# Altium footprint library TLE75080ESDXUMA1.PcbLib: 3 footprints
Each footprint in its own frame and in the unit in brackets; x right, y up, seen from the top. Pads: shape width x height; smd on the part's side, far side on the other; paste and mask are expansions set on the pad; w line width, h text height; cw(c..) or ccw(c..) is an arc to the next point about the centre after c.
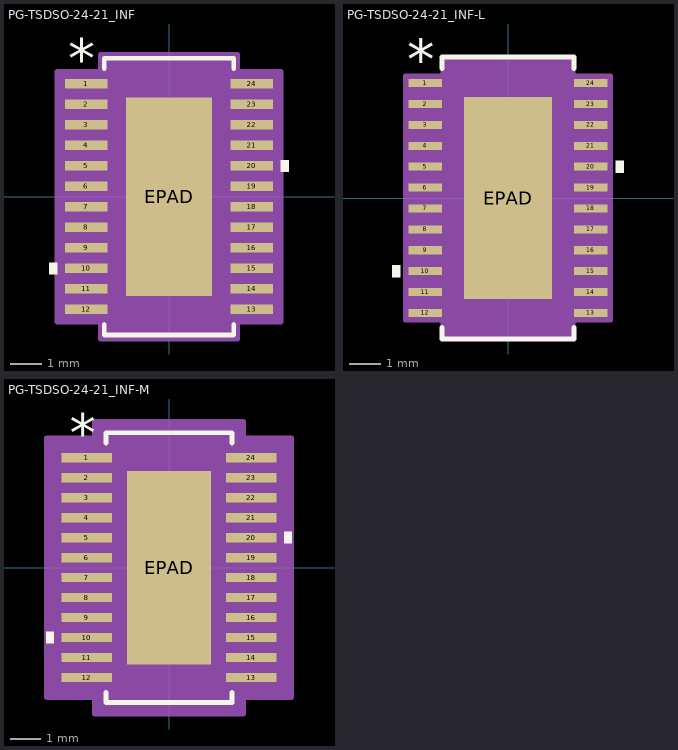
[diagram p0: the footprints below, top view; thin cyan lines are the x and y axes]

## PG-TSDSO-24-21_INF [mil]
pads (25):
  rect 54x12 smd paste+0 mask+0: 1(-105,143) 2(-105,117) 3(-105,91) 4(-105,65) 5(-105,39) 6(-105,13) 7(-105,-13) 8(-105,-39) 9(-105,-65) 10(-105,-91) 11(-105,-117) 12(-105,-143) 13(105,-143) 14(105,-117) 15(105,-91) 16(105,-65) 17(105,-39) 18(105,-13) 19(105,13) 20(105,39) 21(105,65) 22(105,91) 23(105,117) 24(105,143)
  rect 109x252 smd paste-125.5 mask+0: EPAD(0,0)
Top Overlay:
  region: -142,-83.5 -152,-83.5 -152,-98.5 -142,-98.5
  region: 142,46.5 152,46.5 152,31.5 142,31.5
  lines w6: -82,-162.1 -82,-175.5 82,-175.5 82,-162.1 ; -82,162.1 -82,175.5 82,175.5 82,162.1
  text "*" at -127.5,150 h50
Top Paste:
  region: -3.94,122.06 -50.56,122.06 -50.56,79.54 -3.94,79.54
  region: -3.94,71.66 -50.56,71.66 -50.56,29.14 -3.94,29.14
  region: -3.94,21.26 -50.56,21.26 -50.56,-21.26 -3.94,-21.26
  region: -3.94,-29.14 -50.56,-29.14 -50.56,-71.66 -3.94,-71.66
  region: -3.94,-79.54 -50.56,-79.54 -50.56,-122.06 -3.94,-122.06
  region: 50.56,122.06 3.94,122.06 3.94,79.54 50.56,79.54
  region: 50.56,71.66 3.94,71.66 3.94,29.14 50.56,29.14
  region: 50.56,21.26 3.94,21.26 3.94,-21.26 50.56,-21.26
  region: 50.56,-29.14 3.94,-29.14 3.94,-71.66 50.56,-71.66
  region: 50.56,-79.54 3.94,-79.54 3.94,-122.06 50.56,-122.06
Mechanical 13:
  lines w0: -12,170.5 ccw(c0,170.5) 12,170.5
  lines w1: -118,-148 -118,-138 -77,-138 -77,-148 -118,-148 ; -118,-122 -118,-112 -77,-112 -77,-122 -118,-122 ; -118,-96 -118,-86 -77,-86 -77,-96 -118,-96 ; -118,-70 -118,-60 -77,-60 -77,-70 -118,-70 ; -118,-44 -118,-34 -77,-34 -77,-44 -118,-44 ; -118,-18 -118,-8 -77,-8 -77,-18 -118,-18 ; -118,8 -118,18 -77,18 -77,8 -118,8 ; -118,34 -118,44 -77,44 -77,34 -118,34 ; -118,60 -118,70 -77,70 -77,60 -118,60 ; -118,86 -118,96 -77,96 -77,86 -118,86 ; -118,112 -118,122 -77,122 -77,112 -118,112 ; -118,138 -118,148 -77,148 -77,138 -118,138 ; -77,-170.5 77,-170.5 77,170.5 -77,170.5 -77,-170.5 ; 77,-148 77,-138 118,-138 118,-148 77,-148 ; 77,-122 77,-112 118,-112 118,-122 77,-122 ; 77,-96 77,-86 118,-86 118,-96 77,-96 ; 77,-70 77,-60 118,-60 118,-70 77,-70 ; 77,-44 77,-34 118,-34 118,-44 77,-44 ; 77,-18 77,-8 118,-8 118,-18 77,-18 ; 77,8 77,18 118,18 118,8 77,8 ; 77,34 77,44 118,44 118,34 77,34 ; 77,60 77,70 118,70 118,60 77,60 ; 77,86 77,96 118,96 118,86 77,86 ; 77,112 77,122 118,122 118,112 77,112 ; 77,138 77,148 118,148 118,138 77,138
  text "*" at -74.5,117.5 h50
Mechanical 15:
  region: -87,-159 -142,-159 -142,159 -87,159 -87,180.5 87,180.5 87,159 142,159 142,-159 87,-159 87,-180.5 -87,-180.5
  lines w6: -142,-159 -142,159 -87,159 -87,180.5 87,180.5 87,159 142,159 142,-159 87,-159 87,-180.5 -87,-180.5 -87,-159 -142,-159
3D body "PG-TSDSO-24-21_INF.step": height 45.12, standoff 0, extent -117.99,-170.51 117.99,170.51

## PG-TSDSO-24-21_INF-L [mil]
pads (25):
  rect 42x10 smd paste+0 mask+0: 1(-103,143) 2(-103,117) 3(-103,91) 4(-103,65) 5(-103,39) 6(-103,13) 7(-103,-13) 8(-103,-39) 9(-103,-65) 10(-103,-91) 11(-103,-117) 12(-103,-143) 13(103,-143) 14(103,-117) 15(103,-91) 16(103,-65) 17(103,-39) 18(103,-13) 19(103,13) 20(103,39) 21(103,65) 22(103,91) 23(103,117) 24(103,143)
  rect 109x252 smd paste-125.5 mask+0: EPAD(0,0)
Top Overlay:
  region: -134,-83.5 -144,-83.5 -144,-98.5 -134,-98.5
  region: 134,46.5 144,46.5 144,31.5 134,31.5
  lines w6: -82,-161.1 -82,-175.5 82,-175.5 82,-161.1 ; -82,161.1 -82,175.5 82,175.5 82,161.1
  text "*" at -125.5,148 h50
Top Paste:
  region: -3.94,122.06 -50.56,122.06 -50.56,79.54 -3.94,79.54
  region: -3.94,71.66 -50.56,71.66 -50.56,29.14 -3.94,29.14
  region: -3.94,21.26 -50.56,21.26 -50.56,-21.26 -3.94,-21.26
  region: -3.94,-29.14 -50.56,-29.14 -50.56,-71.66 -3.94,-71.66
  region: -3.94,-79.54 -50.56,-79.54 -50.56,-122.06 -3.94,-122.06
  region: 50.56,122.06 3.94,122.06 3.94,79.54 50.56,79.54
  region: 50.56,71.66 3.94,71.66 3.94,29.14 50.56,29.14
  region: 50.56,21.26 3.94,21.26 3.94,-21.26 50.56,-21.26
  region: 50.56,-29.14 3.94,-29.14 3.94,-71.66 50.56,-71.66
  region: 50.56,-79.54 3.94,-79.54 3.94,-122.06 50.56,-122.06
Mechanical 13:
  lines w0: -12,170.5 ccw(c0,170.5) 12,170.5
  lines w1: -118,-148 -118,-138 -77,-138 -77,-148 -118,-148 ; -118,-122 -118,-112 -77,-112 -77,-122 -118,-122 ; -118,-96 -118,-86 -77,-86 -77,-96 -118,-96 ; -118,-70 -118,-60 -77,-60 -77,-70 -118,-70 ; -118,-44 -118,-34 -77,-34 -77,-44 -118,-44 ; -118,-18 -118,-8 -77,-8 -77,-18 -118,-18 ; -118,8 -118,18 -77,18 -77,8 -118,8 ; -118,34 -118,44 -77,44 -77,34 -118,34 ; -118,60 -118,70 -77,70 -77,60 -118,60 ; -118,86 -118,96 -77,96 -77,86 -118,86 ; -118,112 -118,122 -77,122 -77,112 -118,112 ; -118,138 -118,148 -77,148 -77,138 -118,138 ; -77,-170.5 77,-170.5 77,170.5 -77,170.5 -77,-170.5 ; 77,-148 77,-138 118,-138 118,-148 77,-148 ; 77,-122 77,-112 118,-112 118,-122 77,-122 ; 77,-96 77,-86 118,-86 118,-96 77,-96 ; 77,-70 77,-60 118,-60 118,-70 77,-70 ; 77,-44 77,-34 118,-34 118,-44 77,-44 ; 77,-18 77,-8 118,-8 118,-18 77,-18 ; 77,8 77,18 118,18 118,8 77,8 ; 77,34 77,44 118,44 118,34 77,34 ; 77,60 77,70 118,70 118,60 77,60 ; 77,86 77,96 118,96 118,86 77,86 ; 77,112 77,122 118,122 118,112 77,112 ; 77,138 77,148 118,148 118,138 77,138
  text "*" at -74.5,117.5 h50
Mechanical 15:
  region: -81,-152 -128,-152 -128,152 -81,152 -81,174.5 81,174.5 81,152 128,152 128,-152 81,-152 81,-174.5 -81,-174.5
  lines w6: -128,-152 -128,152 -81,152 -81,174.5 81,174.5 81,152 128,152 128,-152 81,-152 81,-174.5 -81,-174.5 -81,-152 -128,-152
3D body "PG-TSDSO-24-21_INF.step": height 45.12, standoff 0, extent -117.99,-170.51 117.99,170.51

## PG-TSDSO-24-21_INF-M [mil]
pads (25):
  rect 66x12 smd paste+0 mask+0: 1(-107,143) 2(-107,117) 3(-107,91) 4(-107,65) 5(-107,39) 6(-107,13) 7(-107,-13) 8(-107,-39) 9(-107,-65) 10(-107,-91) 11(-107,-117) 12(-107,-143) 13(107,-143) 14(107,-117) 15(107,-91) 16(107,-65) 17(107,-39) 18(107,-13) 19(107,13) 20(107,39) 21(107,65) 22(107,91) 23(107,117) 24(107,143)
  rect 109x252 smd paste-125.5 mask+0: EPAD(0,0)
Top Overlay:
  region: -150,-83.5 -160,-83.5 -160,-98.5 -150,-98.5
  region: 150,46.5 160,46.5 160,31.5 150,31.5
  lines w6: -82,-162.1 -82,-175.5 82,-175.5 82,-162.1 ; -82,162.1 -82,175.5 82,175.5 82,162.1
  text "*" at -129.5,150 h50
Top Paste:
  region: -3.94,122.06 -50.56,122.06 -50.56,79.54 -3.94,79.54
  region: -3.94,71.66 -50.56,71.66 -50.56,29.14 -3.94,29.14
  region: -3.94,21.26 -50.56,21.26 -50.56,-21.26 -3.94,-21.26
  region: -3.94,-29.14 -50.56,-29.14 -50.56,-71.66 -3.94,-71.66
  region: -3.94,-79.54 -50.56,-79.54 -50.56,-122.06 -3.94,-122.06
  region: 50.56,122.06 3.94,122.06 3.94,79.54 50.56,79.54
  region: 50.56,71.66 3.94,71.66 3.94,29.14 50.56,29.14
  region: 50.56,21.26 3.94,21.26 3.94,-21.26 50.56,-21.26
  region: 50.56,-29.14 3.94,-29.14 3.94,-71.66 50.56,-71.66
  region: 50.56,-79.54 3.94,-79.54 3.94,-122.06 50.56,-122.06
Mechanical 13:
  lines w0: -12,170.5 ccw(c0,170.5) 12,170.5
  lines w1: -118,-148 -118,-138 -77,-138 -77,-148 -118,-148 ; -118,-122 -118,-112 -77,-112 -77,-122 -118,-122 ; -118,-96 -118,-86 -77,-86 -77,-96 -118,-96 ; -118,-70 -118,-60 -77,-60 -77,-70 -118,-70 ; -118,-44 -118,-34 -77,-34 -77,-44 -118,-44 ; -118,-18 -118,-8 -77,-8 -77,-18 -118,-18 ; -118,8 -118,18 -77,18 -77,8 -118,8 ; -118,34 -118,44 -77,44 -77,34 -118,34 ; -118,60 -118,70 -77,70 -77,60 -118,60 ; -118,86 -118,96 -77,96 -77,86 -118,86 ; -118,112 -118,122 -77,122 -77,112 -118,112 ; -118,138 -118,148 -77,148 -77,138 -118,138 ; -77,-170.5 77,-170.5 77,170.5 -77,170.5 -77,-170.5 ; 77,-148 77,-138 118,-138 118,-148 77,-148 ; 77,-122 77,-112 118,-112 118,-122 77,-122 ; 77,-96 77,-86 118,-86 118,-96 77,-96 ; 77,-70 77,-60 118,-60 118,-70 77,-70 ; 77,-44 77,-34 118,-34 118,-44 77,-44 ; 77,-18 77,-8 118,-8 118,-18 77,-18 ; 77,8 77,18 118,18 118,8 77,8 ; 77,34 77,44 118,44 118,34 77,34 ; 77,60 77,70 118,70 118,60 77,60 ; 77,86 77,96 118,96 118,86 77,86 ; 77,112 77,122 118,122 118,112 77,112 ; 77,138 77,148 118,148 118,138 77,138
  text "*" at -74.5,117.5 h50
Mechanical 15:
  region: -97,-169 -160,-169 -160,169 -97,169 -97,190.5 97,190.5 97,169 160,169 160,-169 97,-169 97,-190.5 -97,-190.5
  lines w6: -160,-169 -160,169 -97,169 -97,190.5 97,190.5 97,169 160,169 160,-169 97,-169 97,-190.5 -97,-190.5 -97,-169 -160,-169
3D body "PG-TSDSO-24-21_INF.step": height 45.12, standoff 0, extent -117.99,-170.51 117.99,170.51